# Altium footprint library SON40P200X200X90-10N.PcbLib: 1 footprints
Each footprint in its own frame and in the unit in brackets; x right, y up, seen from the top. Pads: shape width x height; smd on the part's side, far side on the other; paste and mask are expansions set on the pad; w line width, h text height; cw(c..) or ccw(c..) is an arc to the next point about the centre after c.
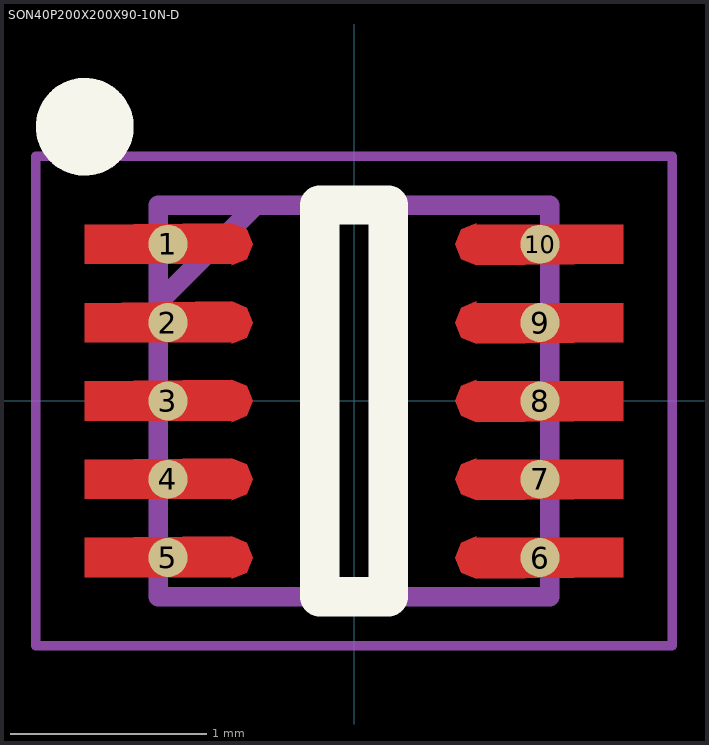
[diagram p0: the footprint, top view; thin cyan lines are the x and y axes]

## SON40P200X200X90-10N-D [mm]
pads (10):
  round 0.2 smd: 1(-0.95,0.8) 2(-0.95,0.4) 3(-0.95,0) 4(-0.95,-0.4) 5(-0.95,-0.8) 6(0.95,-0.8) 7(0.95,-0.4) 8(0.95,0) 9(0.95,0.4) 10(0.95,0.8)
L0 (Multiple PADS layers...):
  region: -1.375,0.9 -0.625,0.908 -0.548,0.877 -0.517,0.8 -0.548,0.723 -0.625,0.692 -0.625,0.7 -1.375,0.7
  region: -1.375,0.5 -0.625,0.508 -0.548,0.477 -0.517,0.4 -0.548,0.323 -0.625,0.292 -0.625,0.3 -1.375,0.3
  region: -1.375,0.1 -0.625,0.108 -0.548,0.077 -0.517,0 -0.548,-0.077 -0.625,-0.108 -0.625,-0.1 -1.375,-0.1
  region: -1.375,-0.3 -0.625,-0.292 -0.548,-0.323 -0.517,-0.4 -0.548,-0.477 -0.625,-0.508 -0.625,-0.5 -1.375,-0.5
  region: -1.375,-0.7 -0.625,-0.692 -0.548,-0.723 -0.517,-0.8 -0.548,-0.877 -0.625,-0.908 -0.625,-0.9 -1.375,-0.9
  region: 1.375,-0.9 0.625,-0.908 0.548,-0.877 0.517,-0.8 0.548,-0.723 0.625,-0.692 0.625,-0.7 1.375,-0.7
  region: 1.375,-0.5 0.625,-0.508 0.548,-0.477 0.517,-0.4 0.548,-0.323 0.625,-0.292 0.625,-0.3 1.375,-0.3
  region: 1.375,-0.1 0.625,-0.108 0.548,-0.077 0.517,0 0.548,0.077 0.625,0.108 0.625,0.1 1.375,0.1
  region: 1.375,0.3 0.625,0.292 0.548,0.323 0.517,0.4 0.548,0.477 0.625,0.508 0.625,0.5 1.375,0.5
  region: 1.375,0.7 0.625,0.692 0.548,0.723 0.517,0.8 0.548,0.877 0.625,0.908 0.625,0.9 1.375,0.9
L26-Silk Screen Top (Multiple PADS layers...):
  circle w0.25: c-1.375,1.4 r0.125
  lines w0.2: -0.175,-1 0.175,-1 0.175,1 -0.175,1 -0.175,-1
L15 (Multiple PADS layers...):
  lines w0.1: -1,0.5 -0.5,1 ; -1,-1 1,-1 1,1 -1,1 -1,-1
L20:
  lines w0.05: -1.625,-1.25 1.625,-1.25 1.625,1.25 -1.625,1.25 -1.625,-1.25